# Altium schematic symbol library LMV358M.SchLib: 2 symbols
Pins are listed as number, name and electrical type; pins without a type are passive.

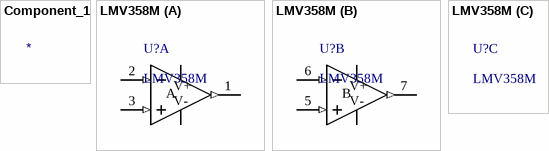
[diagram p0: symbols Component_1 to LMV358M]

## Component_1
designator *  (value not drawn)

## LMV358M
designator U?
No Description Available; Mfr_Name: Texas Instruments; Manufacturer: NationalSemiconductor; Characteristics: LMV358MGeneralPurposeLowVoltageR-ROut1MHzDualOpAmp; CompType: OpAmpIC; TaMin_C: -400; TaMax_C: 850; ComponentLink1DescBC: LMV358Datasheet; ComponentLink2DescA4: LMV358WebPage; ComponentLink3DescAC: M08APackageWebPage; Copyright: Copyright (C) 2022 Ultra Librarian. All rights reserved.; Manufacturer_Part_Number: LMV358M; RefDes: RefDes; Type: DEV; SymbolVersion: 2008-07-09; PartNumber: LMV358M; PackageDescription: 8LeadSOIC; PackageReference: M08A_L; RoHS: O; ComponentLink1URL: http//wwwnationalcom/ds/LM/LMV358pdf; ComponentLink2URL: http//wwwnationalcom/pf/LM/LMV358html; ComponentLink3URL: http//wwwnationalcom/packaging/folders/m08ahtml; Version: B1608; LatestRevisionDate: 2009-03-16; LatestRevisionNote: MassUpdate; Publisher: NationalSemiconductor; Published: 2009-03-16
footprint M08A
part A pins: 1 OUT (out), 2 IN- (in), 3 IN+ (in)
part B pins: 5 IN+ (in), 6 IN- (in), 7 OUT (out)
part A text: V+; A; V-
part B text: V+; B; V-